# EAGLE library part MAX941EUA+ (library U-Maxim-MAX941EUA-Comparator-with-latch)
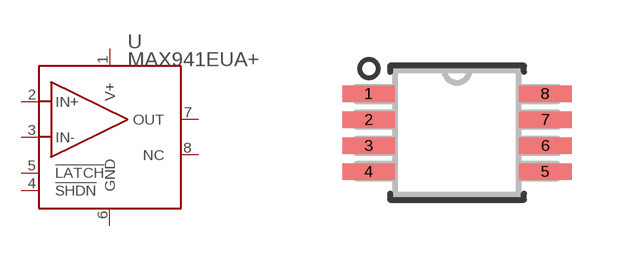
[diagram p0: symbol with the pads of 21-0036K_MXM; footprint 21-0036K_MXM]

Designator prefix U

## MAX941EUA+ (BUILT_BY: EMA_UL_Team; MANUFACTURER_PART_NUMBER: MAX941EUA+; REVISION: 2; SOURCELIBRARY: Maxim_2014-05-21; VENDOR: Maxim Integrated Products)  [21-0036K_MXM]
1  V+  pwr
2  IN+  in
3  IN-  in
4  !SHDN  in
5  !LATCH  in
6  GND  pwr
7  OUT  out
8  NC  nc

## Footprint 21-0036K_MXM (pad centres in mm)
smd 1.321 x 0.406: 1 -2.21,0.975; 2 -2.21,0.325; 3 -2.21,-0.325; 4 -2.21,-0.975; 5 2.21,-0.975; 6 2.21,-0.325; 7 2.21,0.325; 8 2.21,0.975